# Altium schematic symbol library BBB_Cape_template.SchLib: 5 symbols
Pins are listed as number, name and electrical type; pins without a type are passive.

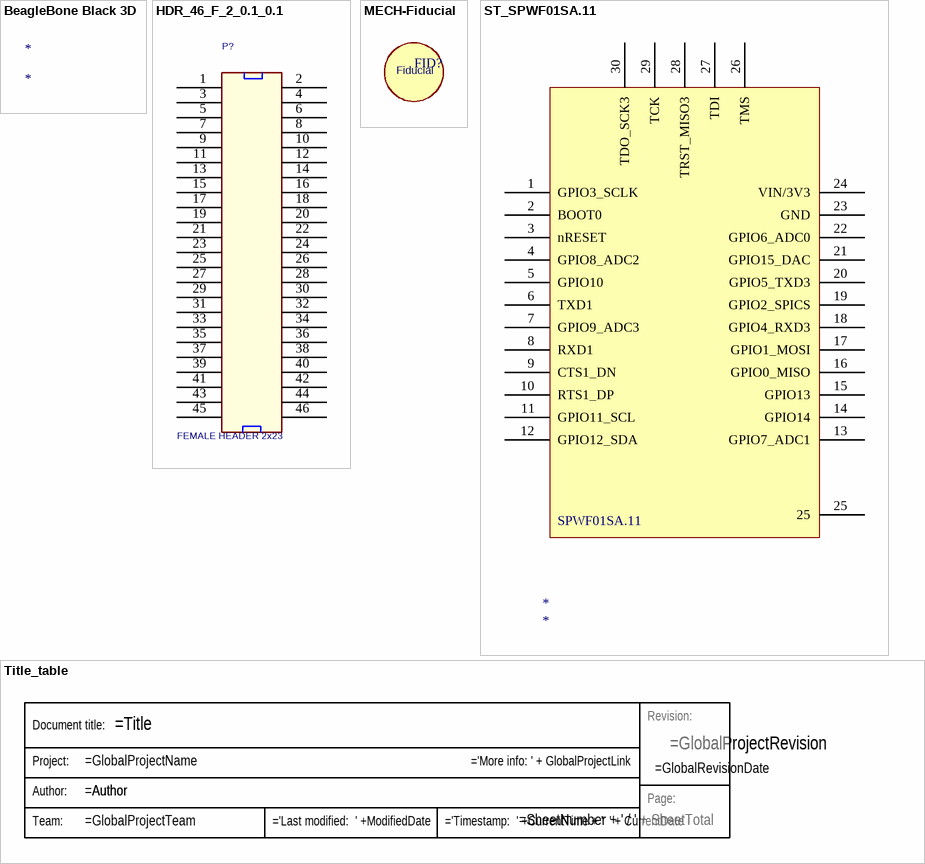
[diagram p0: symbols BeagleBone Black 3D to Title_table]

## BeagleBone Black 3D
designator *
3D model BEAGLEBONE_BLACK (PCB3D Model)

## HDR_46_F_2_0.1_0.1
designator P?, comment FEMALE HEADER 2x23
CONN HEADER FMAL 46PS.1" DL GOLD; Manufacturer: Sullins Connector Solutions; Manufacturer Part Number: PPPC232LFBN-RC; Number of Positions: 46; Number of Positions Loaded: All; Pitch: 0.100" (2.54mm); Supplier 1: Digi-Key; Supplier Part Number 1: S7126-ND; RoHS: RoHS Compliant; Category: Connectors, Interconnects; Stock 1: 750; Pricing 1: 1=2.75, 10=2.325, 25=2.2196, 50=2.0084, 100=1.7969, 250=1.58552, 500=1.4798, 1000=1.3741, 2500=1.32125 (USD); Connector Type: Header; Contact Type: Female Socket; Number of Rows: 2; Row Spacing: 0.100" (2.54mm); Mounting Type: Through Hole; Termination: Solder; Fastening Type: -; Features: -; Contact Finish: Gold; Contact Finish Thickness: Flash; Color: Black; Packaging: Bulk; ComponentLink1URL: http://www.sullinscorp.com/drawings/78_P(N)PxCxxxLFBN-RC,_10492-G.pdf; ComponentLink1Description: http://www.sullinscorp.com/drawings/78_P(N)PxCxxxLFBN-RC,_10492-G.pdf
footprint HEADER23X2
3D model pin_header_a-sl200-dg-g46d (PCB3D Model)
pins: 1, 2 26, 3 2, 4 27, 5 3, 6 28, 7 4, 8 29, 9 5, 10 30, 11 6, 12 31, 13 7, 14 32, 15 8, 16 33, 17 9, 18 34, 19 10, 20 35, 21 11, 22 36, 23 12, 24 37, 25 13, 26 38, 27 14, 28 39, 29 15, 30 40, 31 16, 32 41, 33 17, 34 42, 35 18, 36 43, 37 19, 38 44, 39 20, 40 45, 41 21, 42 46, 43 22, 44 47, 45 23, 46 48

## MECH-Fiducial
designator FID?  (value not drawn)
Fiducial
footprint S_Fiducial (Fiducial)

## ST_SPWF01SA.11
designator *
footprint ST_WiFi
pins: 1 GPIO3_SCLK, 2 BOOT0, 3 nRESET, 4 GPIO8_ADC2, 5 GPIO10, 6 TXD1, 7 GPIO9_ADC3, 8 RXD1, 9 CTS1_DN, 10 RTS1_DP, 11 GPIO11_SCL, 12 GPIO12_SDA, 13 GPIO7_ADC1, 14 GPIO14, 15 GPIO13, 16 GPIO0_MISO, 17 GPIO1_MOSI, 18 GPIO4_RXD3, 19 GPIO2_SPICS, 20 GPIO5_TXD3, 21 GPIO15_DAC, 22 GPIO6_ADC0, 23 GND, 24 VIN/3V3, 25, 26 TMS, 27 TDI, 28 TRST_MISO3, 29 TCK, 30 TDO_SCK3
text: SPWF01SA.11

## Title_table
designator Title_table  (value not drawn)  (graphical)
text: Revision:; Document title:; Project:; Author:; Page:; Team: